# EAGLE library part RELAIS-FINDER-40.61_SOCKEL (library 1A-meinLib)
Print-Leitstungsrelais Typ 40.61.... im schraubsockel Typ 95.05SPA, Finder
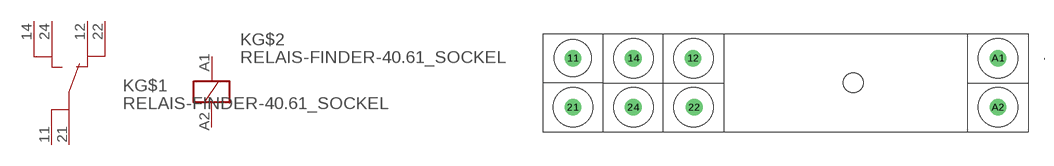
[diagram p116: symbol with the pads of RELAIS-FINDER-SOCKEL-95.05; footprint RELAIS-FINDER-SOCKEL-95.05]

Designator prefix K; gates G$1=RELAIS-UMSCHALTER-FINDER-40.61_SOCKEL G$2=RELAIS-SPULE

## RELAIS-FINDER-40.61_SOCKEL  [RELAIS-FINDER-SOCKEL-95.05]
11  G$1:COM-A
12  G$1:NC-A
14  G$1:NO-A
21  G$1:COM-B
22  G$1:NC-B
24  G$1:NO-B
A1  G$2:A1  pas
A2  G$2:A2  pas

## Footprint RELAIS-FINDER-SOCKEL-95.05 (pad centres in mm)
drill 1.8 round: 11 -45.5,4; 12 -26,4; 14 -35.7,4; 21 -45.5,-4; 22 -25.8,-4; 24 -35.7,-4; A1 23.5,4; A2 23.5,-4